# Altium integrated library Molex.IntLib: 1 symbol
Pins are listed as number, name and electrical type; pins without a type are passive.

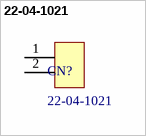
[diagram p0: symbol 22-04-1021]

## 22-04-1021
designator CN?
22-04-1021 KK 5045-2
footprint 22-04-1021 (22-04-1021 KK 5045-2)
pins: 1, 2